# Altium schematic symbol library ic_analog.SchLib: 7 symbols
Pins are listed as number, name and electrical type; pins without a type are passive.

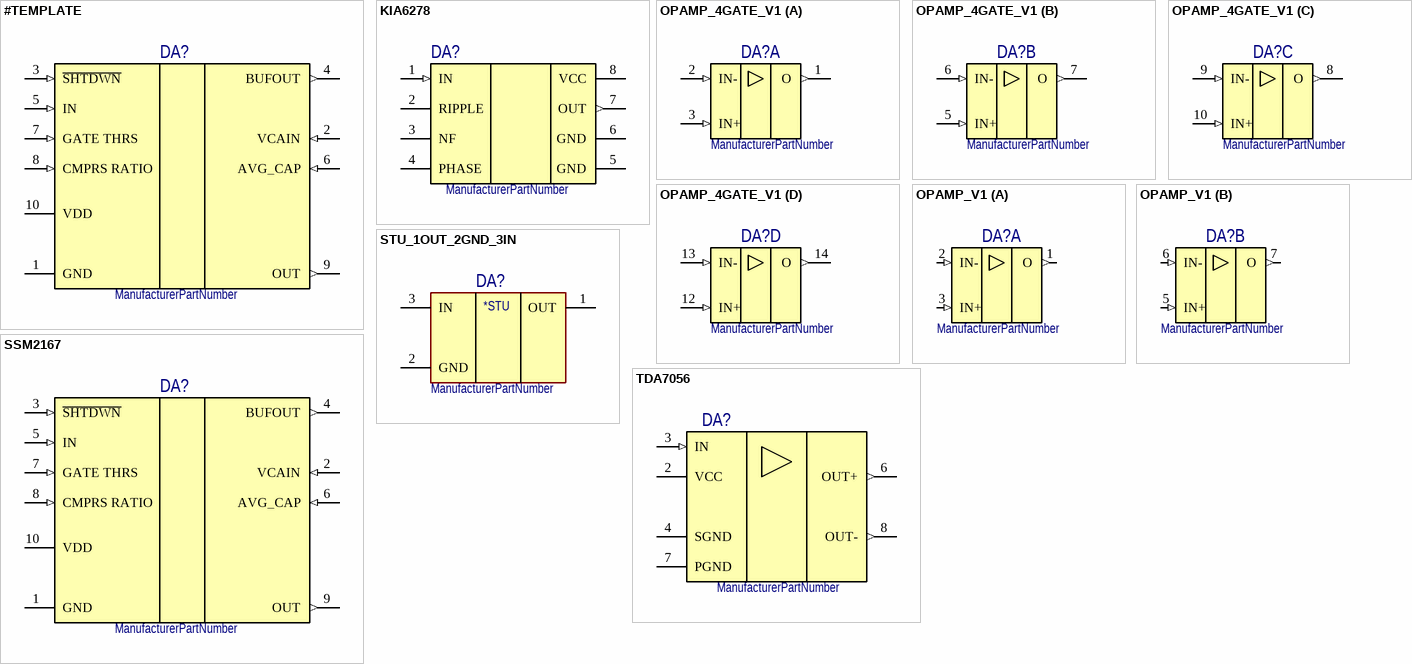
[diagram p0: symbols #TEMPLATE to TDA7056]

## #TEMPLATE
designator DA?
ManufacturerPartNumber: ManufacturerPartNumber
pins: 1 GND (power), 2 VCAIN (in), 3 ~{SHTDWN} (in), 4 BUFOUT (out), 5 IN (in), 6 AVG_CAP (in), 7 GATE THRS (in), 8 CMPRS RATIO (in), 9 OUT (out), 10 VDD (power)

## KIA6278
designator DA?
ManufacturerPartNumber: ManufacturerPartNumber
pins: 1 IN (in), 2 RIPPLE, 3 NF, 4 PHASE, 5 GND (power), 6 GND (power), 7 OUT (out), 8 VCC (power)

## OPAMP_4GATE_V1
designator DA?
ManufacturerPartNumber: ManufacturerPartNumber
pins on every part: 4 VCC+ (power) hidden, 11 VCC- (power) hidden
part A pins: 1 O (out), 2 IN- (in), 3 IN+ (in)
part B pins: 5 IN+ (in), 6 IN- (in), 7 O (out)
part C pins: 8 O (out), 9 IN- (in), 10 IN+ (in)
part D pins: 12 IN+ (in), 13 IN- (in), 14 O (out)
1 alternate drawing of the same symbol

## OPAMP_V1
designator DA?
ManufacturerPartNumber: ManufacturerPartNumber
part A pins: 1 O (out), 2 IN- (in), 3 IN+ (in), 4 V- (power) hidden to GND, 8 V+ (power) hidden to 3.3V
part B pins: 5 IN+ (in), 6 IN- (in), 7 O (out)

## SSM2167
designator DA?
ManufacturerPartNumber: ManufacturerPartNumber
pins: 1 GND (power), 2 VCAIN (in), 3 ~{SHTDWN} (in), 4 BUFOUT (out), 5 IN (in), 6 AVG_CAP (in), 7 GATE THRS (in), 8 CMPRS RATIO (in), 9 OUT (out), 10 VDD (power)

## STU_1OUT_2GND_3IN
designator DA?
ManufacturerPartNumber: ManufacturerPartNumber
pins: 1 OUT, 2 GND, 3 IN
text: *STU

## TDA7056
designator DA?
ManufacturerPartNumber: ManufacturerPartNumber
pins: 2 VCC (power), 3 IN (in), 4 SGND (power), 6 OUT+ (out), 7 PGND (power), 8 OUT- (out)